# Altium schematic symbol library PBL - Integrated Circuits.SCHLIB: 35 symbols
Pins are listed as number, name and electrical type; pins without a type are passive.

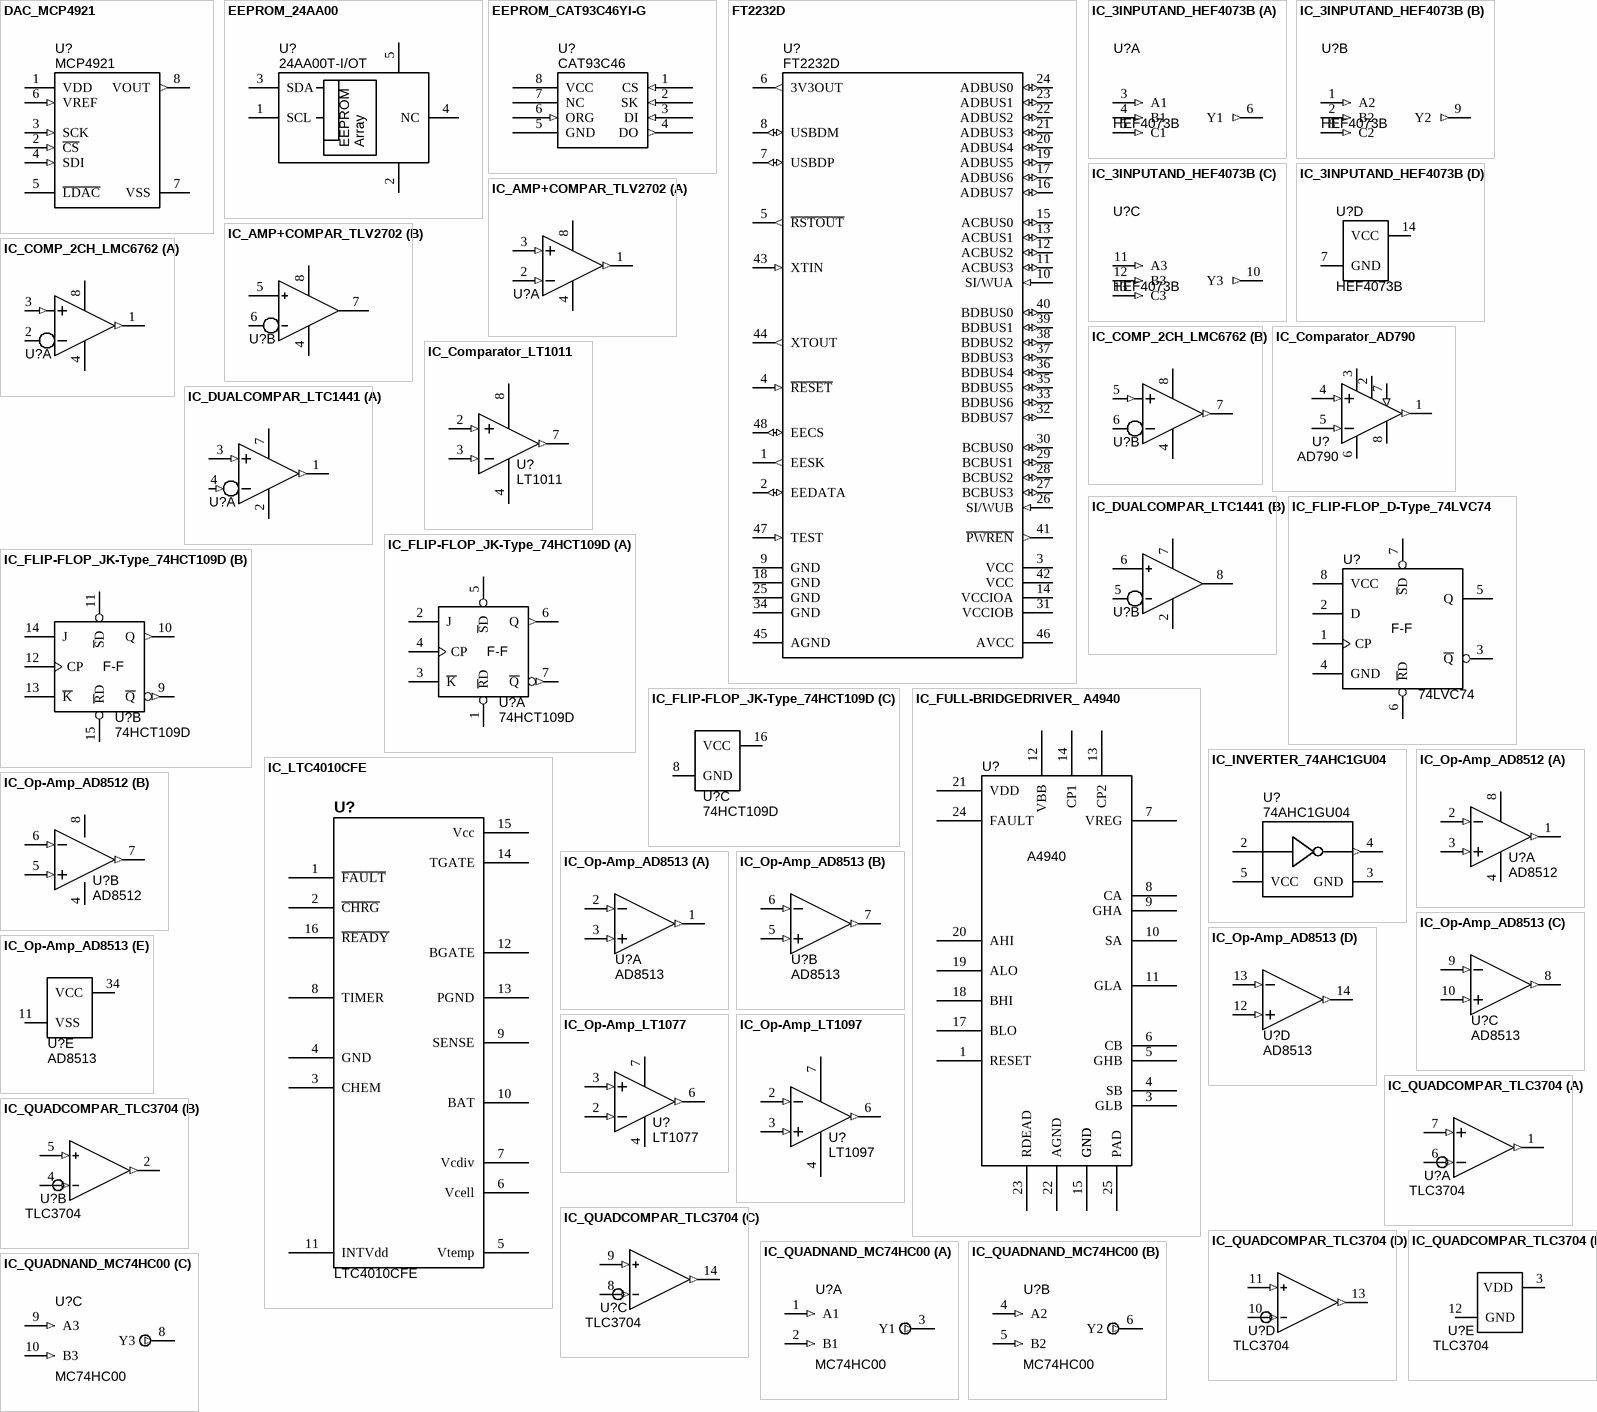
[diagram p0: symbols DAC_MCP4921 to IC_QUADNAND_MC74HC00]

## DAC_MCP4921
designator U?, comment MCP4921
IC DAC 12-bit SPI 8-SOIC; Manufacturer 1: Microchip Technology; Manufacturer Part Number 1: MCP4921-E/SN; Speed: 4.5 µs; Interface: Serial, SPI; Voltage - Supply: 1.8 V ~ 5.5 V; Number of Bits: 12; Number of Converters: 1; SCDType: spec*; Operating Temperature: -40°C ~ 85°C; Package / Case: 8-SOIC (0.154", 3.90mm Width); Supplier 1: Digi-Key; Supplier Part Number 1: MCP4921-E/SN-ND
footprint SOIC127P600X175-8AN (SOIC, 8-Leads, Body 4.9x3.9mm, Pitch 1.27mm, IPC Medium Density)
pins: 1 VDD (power), 2 ~{CS} (in), 3 SCK (in), 4 SDI (in), 5 ~{LDAC} (power), 6 VREF (in), 7 VSS (power), 8 VOUT (out)

## EEPROM_24AA00
designator U?, comment Manufacturer Part Number 1: 24AA00T-I/OT  (hidden comment: EEPROM)
EEPROM 128BIT 400KHZ SOT23-5; Manufacturer 1: Microchip Technology; Format - Memory: EEPROMs - Serial; Memory Size: 128 (16 x 8); Voltage - Supply: 1.7 V ~ 5.5 V; SCDType: spec*; Supplier 1: Digi-Key; Supplier Part Number 1: 24AA00T-I/OTCT-ND; RoHS: RoHS Compliant; Operating Temperature: -40°C ~ 85°C; Package / Case: SOT-23-5; Value: EEPROM
footprint SOT23-5
pins: 1 SCL, 2 GND, 3 SDA, 4 NC, 5 VCC
text: Array

## EEPROM_CAT93C46YI-G
designator U?, comment CAT93C46
EEPROM 1KBIT 2MHZ 8-TSSOP; Manufacturer 1: ON Semiconductor; Manufacturer Part Number 1: CAT93C46YI-G; Format - Memory: EEPROMs - Serial; Memory Size: 1K (128 x 8 or 64 x 16); Interface: Microwire, 3-Wire Serial; Voltage - Supply: 1.8 V ~ 5.5 V; Rule: UNIONINDEX{}0[]SOLDERMASKEXPANSIONMODE{}None[]PASTEMASKEXPANSIONMODE{}None[]RULEKIND{}Clearance[]NETSCOPE{}DifferentNets[]LAYERKIND{}SameLayer[]NAME{}Schematic Clearance Constraint[]GAP{}9.5mil[]UNIT{}Imperial[]PcbType{}ProtelPcb; SCDType: spec; Supplier 1: Digi-Key; Supplier Part Number 1: CAT93C46YI-G-ND; Memory Type: EEPROM; Speed: 2MHz; Operating Temperature: -40°C ~ 85°C; Package / Case: 8-TSSOP; Supplier Device Package: 8-TSSOP; ComponentLink1URL: http://www.onsemi.com/pub_link/Collateral/CAT93C46-D.PDF; ComponentLink1Description: http://www.onsemi.com/pub_link/Collateral/CAT93C46-D.PDF
footprint TSSOP65P640X120-8N (TSSOP, 8 Leads, Body 3.1x4.5mm (max), Pitch 0.65mm, IPC Medium Density)
pins: 1 CS (in), 2 SK (in), 3 DI (in), 4 DO (out), 5 GND (power), 6 ORG (in), 7 NC, 8 VCC (power)

## FT2232D
designator U?
Dual USB UART/FIFO Chip, LQFP-48; Manufacturer 1: FTDI, Future Technology Devices International Ltd; Manufacturer Part Number 1: FT2232D-REEL; Protocol: RS-232, RS-422, RS-485; Voltage - Supply: 4.35 V ~ 5.25 V; Rule: UNIONINDEX{}0[]SOLDERMASKEXPANSIONMODE{}None[]PASTEMASKEXPANSIONMODE{}None[]RULEKIND{}Clearance[]NETSCOPE{}DifferentNets[]LAYERKIND{}SameLayer[]NAME{}Schematic Clearance Constraint[]GAP{}7.874mil[]UNIT{}Metric[]PcbType{}ProtelPcb; SCDType: spec; DatasheetVersion: ver 2.05, Apr-2011; ComponentLink1Description: Manufacturer URL; ComponentLink1URL: http://www.ftdichip.com/; ComponentLink2Description: Datasheet; ComponentLink2URL: http://www.ftdichip.com/Support/Documents/DataSheets/ICs/DS_FT2232D.pdf; Supplier 1: Digi-Key; Supplier Part Number 1: 768-1010-1-ND; Package / Case: 48-LQFP
footprint LQFP-48_N (Thin QFP, 48-Leads, Body 7x7mm, Pitch 0.5mm, IPC Medium Density)
pins: 1 EESK (out), 2 EEDATA (io), 3 VCC (power), 4 ~{RESET} (in), 5 ~{RSTOUT} (out), 6 3V3OUT (out), 7 USBDP (io), 8 USBDM (io), 9 GND (power), 10 SI/WUA (in), 11 ACBUS3 (io), 12 ACBUS2 (io), 13 ACBUS1 (io), 14 VCCIOA (power), 15 ACBUS0 (io), 16 ADBUS7 (io), 17 ADBUS6 (io), 18 GND (power), 19 ADBUS5 (io), 20 ADBUS4 (io), 21 ADBUS3 (io), 22 ADBUS2 (io), 23 ADBUS1 (io), 24 ADBUS0 (io), 25 GND (power), 26 SI/WUB (in), 27 BCBUS3 (io), 28 BCBUS2 (io), 29 BCBUS1 (io), 30 BCBUS0 (io), 31 VCCIOB (power), 32 BDBUS7 (io), 33 BDBUS6 (io), 34 GND (power), 35 BDBUS5 (io), 36 BDBUS4 (io), 37 BDBUS3 (io), 38 BDBUS2 (io), 39 BDBUS1 (io), 40 BDBUS0 (io), 41 ~{PWREN} (out), 42 VCC (power), 43 XTIN (in), 44 XTOUT (out), 45 AGND (power), 46 AVCC (power), 47 TEST (in), 48 EECS (io)

## IC_3INPUTAND_HEF4073B
designator U?, comment HEF4073B
IC SMD Triple 3-input AND SOIC-14; Manufacturer 1: NXP Semiconductors; Manufacturer Part Number 1: HEF4073BT,653; Logic Type: AND gate; Current - Output High, Low: 3mA, 3mA; Voltage - Supply: 3 V ~ 15 V; Ratings: -40°C ~ 85°C; SCDType: undef; Mounting Type: Surface Mount; Package / Case: 14-SOIC (0.154", 3.90mm Width); Supplier 1: Digi-Key; Supplier Part Number 1: 568-7700-1-ND; ComponentLink1URL: http://www.nxp.com/documents/data_sheet/HEF4073B_CNV.pdf; ComponentLink1Description: HEF4073B datasheet
footprint SOIC127P600X175-14AN (SOIC, 1.27mm pitch, 14 pin, Body 8.65x3.90mm)
part A pins: 3 A1 (in), 4 B1 (in), 5 C1 (in), 6 Y1 (out)
part B pins: 1 A2 (in), 2 B2 (in), 8 C2 (in), 9 Y2 (out)
part C pins: 10 Y3 (out), 11 A3 (in), 12 B3 (in), 13 C3 (in)
part D pins: 7 GND (power), 14 VCC (power)

## IC_AMP+COMPAR_TLV2702
designator U?, comment TLV2702  (value not drawn)
IC SMD AMP+COMPAR Combo SOIC-8; Manufacturer 1: Texas Instruments; Manufacturer Part Number 1: TLV2702ID; Voltage - Supply: 2.7 V ~ 16 V, ±1.35 V ~ 8 V; SCDType: undef; Package / Case: 8-SOIC (0.154", 3.90mm Width); Supplier 1: Digi-Key; Supplier Part Number 1: 296-12503-5-ND
footprint SOIC127P600X175-8AN (SOIC, 8-Leads, Body 4.9x3.9mm, Pitch 1.27mm, IPC Medium Density)
pins on every part: 4 -Vs (power), 8 +Vs (power)
part A pins: 1 Aout (out), 2 AIN - (in), 3 AIN + (in)
part B pins: 5 CIN +, 6  CIN-, 7 Cout

## IC_COMP_2CH_LMC6762
designator U?, comment LMC6762  (value not drawn)
IC Dual Rail-Rail PP Comparator SOIC-8 SMD; Manufacturer 1: National Semiconductor; Manufacturer Part Number 1: LMC6762BIM/NOPB; Voltage - Supply: 2.7 V ~ 16 V, ±1.35 V ~ 8 V; Number of Elements: 2; Output Type: Push-Pull, Rail-to-Rail; SCDType: spec; Package / Case: 8-SOIC (0.154", 3.90mm Width); Supplier 1: Digi-Key; Supplier Part Number 1: LMC6762BIM-ND; ComponentLink1URL: http://www.ti.com/lit/ds/symlink/lmc6762.pdf; ComponentLink1Description: http://www.ti.com/lit/ds/symlink/lmc6762.pdf
footprint SOIC127P600X175-8AN (SOIC, 8-Leads, Body 4.9x3.9mm, Pitch 1.27mm, IPC Medium Density)
pins on every part: 4 V- (power), 8 V+ (power)
part A pins: 1 OUT A (out), 2 IN A- (in), 3 IN A+ (in)
part B pins: 5 IN B+ (in), 6 IN B- (in), 7 OUT B (out)

## IC_Comparator_AD790
designator U?, comment AD790
IC SMD Voltage Comparator SOIC-8; Manufacturer 1: Analog Devices Inc; Manufacturer Part Number 1: AD790JRZ; Voltage - Supply: 2.7 V ~ 16 V, ±1.35 V ~ 8 V; SCDType: spec?; Package / Case: 8-SOIC (0.154", 3.90mm Width); Supplier 1: Digi-Key; Supplier Part Number 1: AD790JRZ-ND
footprint SOIC127P600X175-8AN (SOIC, 8-Leads, Body 4.9x3.9mm, Pitch 1.27mm, IPC Medium Density)
pins: 1 OUT (out), 2 Vlogic (power), 3 +Vs (power), 4 +IN (in), 5 -IN (in), 6 -Vs (power), 7 ~{Latch} (in), 8 GND (power)

## IC_Comparator_LT1011
designator U?, comment LT1011
IC SMD Voltage Comparator SOIC-8; Manufacturer 1: Linear Technology; Manufacturer Part Number 1: LT1011CS8#PBF; Voltage - Supply: 2.7 V ~ 16 V, ±1.35 V ~ 8 V; SCDType: undef; Supplier 1: Digi-Key; Supplier Part Number 1: LT1011CS8#PBF-ND; Package / Case: 8-SOIC (0.154", 3.90mm Width)
footprint SOIC127P600X175-8AN (SOIC, 8-Leads, Body 4.9x3.9mm, Pitch 1.27mm, IPC Medium Density)
pins: 2 IN+ (in), 3 IN- (in), 4 V- (power), 7 OUT (out), 8 V+ (power)

## IC_DUALCOMPAR_LTC1441
designator U?, comment LTC1441  (value not drawn)
IC SMD Dual Comparator SOIC-8; Manufacturer 1: Texas Instruments; Manufacturer Part Number 1: LTC1441CS8#PBF; Voltage - Supply: 2.7 V ~ 16 V, ±1.35 V ~ 8 V; SCDType: undef; Package / Case: 8-SOIC (0.154", 3.90mm Width); Supplier 1: Digi-Key; Supplier Part Number 1: LTC1441CS8#PBF-ND
footprint SOIC127P600X175-8AN (SOIC, 8-Leads, Body 4.9x3.9mm, Pitch 1.27mm, IPC Medium Density)
pins on every part: 2 V- (power), 7 V+ (power)
part A pins: 1 OUT A (out), 3 IN A+ (in), 4 IN A- (in)
part B pins: 5 IN B-, 6 IN B+, 8 Out B

## IC_FLIP-FLOP_D-Type_74LVC74
designator U?, comment 74LVC74
IC Flip-Flop D-type TSSOP-8 SMD; Manufacturer 1: NXP Semiconductors; Manufacturer Part Number 1: 74LVC2G74DP,125; SCDType: spec; Value: 74LVC74; Supplier 1: Digi-Key; Supplier Part Number 1: 568-7681-1-ND; Package / Case: 8-TSSOP (0.118", 3.00mm Width)
footprint TSSOP65P400X110-8N (TSSOP, 8 Leads, Body 3.1x3.1mm (max), lead span 4.0mm, Pitch 0.65mm, IPC Medium Density)
pins: 1 CP, 2 D, 3 ~{Q}, 4 GND, 5 Q, 6 ~{R}D, 7 ~{S}D, 8 VCC
text: F-F

## IC_FLIP-FLOP_JK-Type_74HCT109D
designator U?, comment 74HCT109D
IC Flip-Flop JK-type SOIC-16 SMD; Manufacturer 1: NXP Semiconductors; Manufacturer Part Number 1: 74HCT109D,653; SCDType: undef; Value: 74HCT109D; Package / Case: 16-SOIC (0.154", 3.90mm Width); ComponentLink1URL: http://www.nxp.com/documents/data_sheet/74HC_HCT109_CNV.pdf; ComponentLink1Description: 74HCT109D datasheet; Supplier 1: Digi-Key; Supplier Part Number 1: 568-4577-1-ND
footprint SOIC127P600X175-16AN (SOIC, 1.27mm pitch, 16 pin, Body 9.9x3.90mm)
part A pins: 1 ~{R}D, 2 J, 3 ~{K}, 4 CP, 5 ~{S}D, 6 Q (out), 7 ~{Q} (out)
part B pins: 9 ~{Q} (out), 10 Q (out), 11 ~{S}D, 12 CP, 13 ~{K}, 14 J, 15 ~{R}D
part C pins: 8 GND (power), 16 VCC (power)
part A text: F-F
part B text: F-F

## IC_FULL-BRIDGEDRIVER_ A4940
designator U?, comment A4940
24-pin TSSOP Automotive Full Bridge MOSFET Driver; Manufacturer Part Number 1: A4940KLPTR-T; Manufacturer 1: Allegro Microsystems Inc; Input Type: Non-Inverting; Voltage - Supply: 5.5 V ~ 50 V; SCDType: undef; Supplier 1: Digi-Key; Package / Case: 24-TSSOP (0.173", 4.40mm Width) Exposed Pad; Supplier Part Number 1: 620-1319-1-ND; ComponentLink1URL: http://www.allegromicro.com/en/Products/Part_Numbers/4940/4940.pdf; ComponentLink1Description: A4940 Datasheet
footprint SOP65P640X110-25N (TSSOP, 24-Leads, Body 7.9x4.5mm (max), Pitch 0.65mm, IPC Medium Density; JEDEC MO-153)
pins: 1 RESET "reset input", 2 GND (power) "ground", 3 GLB "low-side gate drive B", 4 SB "load connection B", 5 GHB "high-side gate drive B", 6 CB "bootstrap capacitor B", 7 VREG "regulated 13V ouput", 8 CA "bootstrap capacitor A", 9 GHA "high-side gate drive A", 10 SA "load connection A", 11 GLA "low-side gate drive A", 12 VBB (power) "main supply", 13 CP2 "pump capacitor", 14 CP1 "pump capacitor", 15 GND (power) "ground", 16 GND (power) "ground", 17 BLO "control input B low side", 18 BHI "control input B high side", 19 ALO "control input A low side", 20 AHI "control input A high side", 21 VDD (power) "logic supply", 22 AGND (power) "ground reference", 23 RDEAD "dead time setting input", 24 FAULT "fault output", 25 PAD (power) "exposed die pad"

## IC_INVERTER_74AHC1GU04
designator U?, comment 74AHC1GU04
IC Inverter SOT353 SMD; Manufacturer 1: NXP Semiconductors; Manufacturer Part Number 1: 74AHC1GU04GW,125; Voltage - Supply: 2 V ~ 5.5 V; SCDType: undef; Package / Case: 6-TSSOP (5 Lead), SC-88A, SOT-353; ComponentLink1URL: http://www.nxp.com/documents/data_sheet/74AHC1GU04.pdf; ComponentLink1Description: 74AHC1GU04 datasheet; Supplier 1: Digi-Key; Supplier Part Number 1: 568-4825-1-ND
footprint SOT353 (Small outline 2.1mm L x 1.25mm W x 1mm H; 5LD SC-70; SC-88A)
pins: 2 A, 3 GND (power), 4 Y (out), 5 VCC (power)

## IC_LTC4010CFE
designator U?, comment LTC4010CFE
IC Battery Charge Controller; Manufacturer 1: Linear Technology; Manufacturer Part Number 1: LTC4010CFE#PBF; SCDType: undef; Package / Case: 16-TSSOP-EP; Material: Si; Supplier 1: Digi-Key; Supplier Part Number 1: LTC4010CFE#PBF-ND
footprint TSSOP65P640X120-17N (TSSOP, 16 Leads with exposed body pad, Body 5.1x4.5mm (max), Pitch 0.65mm, IPC Medium Density)
pins: 1 ~{FAULT} "Active-low fault indicator output", 2 ~{CHRG} "Active-low charge indicator output", 3 CHEM "Battery chemistry selection input", 4 GND "Ground", 5 Vtemp "Battery temperature input", 6 Vcell "Average single-cell voltage input", 7 Vcdiv "Average cell voltage resistor divider termination", 8 TIMER "Charge timer input", 9 SENSE "Charge current sense input", 10 BAT "Battery pack connection", 11 INTVdd "Internal 5V regulator output", 12 BGATE "External synchronous N-channel MOSFET gate control output", 13 PGND "Power ground", 14 TGATE "External P-channel MOSFET gate control output", 15 Vcc "Power input", 16 ~{READY} "Active-low ready-to-charge output", 17 GND "Ground"

## IC_Op-Amp_AD8512
designator U?, comment AD8512
IC SMD Low Cost Op Amp SOIC-8; Manufacturer 1: Analog Devices Inc; Manufacturer Part Number 1: AD8512BRZ; Voltage - Supply: 2.7 V ~ 16 V, ±1.35 V ~ 8 V; SCDType: spec?; Package / Case: 8-SOIC (0.154", 3.90mm Width); Supplier 1: Digi-Key; Supplier Part Number 1: AD8512BRZ-ND
footprint SOIC127P600X175-8AN (SOIC, 8-Leads, Body 4.9x3.9mm, Pitch 1.27mm, IPC Medium Density)
pins on every part: 4 V- (power), 8 V+ (power)
part A pins: 1 OUT (out), 2 IN- (in), 3 IN+ (in)
part B pins: 5 IN+ (in), 6 IN- (in), 7 OUT (out)

## IC_Op-Amp_AD8513
designator U?, comment AD8513
IC Op Amp JFET 8MHz Quad TSSOP-14 SMD; Manufacturer 1: Analog Devices Inc; Manufacturer Part Number 1: AD8513ARUZ; Voltage - Supply, Single/Dual (±): ±4.5 V ~ 18 V; SCDType: spec?; Package / Case: 14-TSSOP (0.173", 4.40mm Width); Supplier 1: Digi-Key; Supplier Part Number 1: AD8513ARUZ-ND
footprint TSSOP65P640X120-14N (TSSOP, 14-Leads, Body 5.0x4.5mm (max), Pitch 0.65mm, IPC Medium Density)
part A pins: 1 OUT (out), 2 IN- (in), 3 IN+ (in)
part B pins: 5 IN+ (in), 6 IN- (in), 7 OUT (out)
part C pins: 8 OUT (out), 9 IN- (in), 10 IN+ (in)
part D pins: 12 IN+ (in), 13 IN- (in), 14 OUT (out)
part E pins: 11 VSS (power), 34 VCC (power)

## IC_Op-Amp_LT1077
designator U?, comment LT1077
IC SMD Op Amp Precision Micropower SOIC-8; Manufacturer 1: Linear Technology; Manufacturer Part Number 1: LT1077IS8#PBF; Voltage - Supply: 2.2 V ~ 30 V, ±1.1 V ~ 15 V; Gain Bandwidth Product: 230kHz; SCDType: spec; Package / Case: 8-SOIC (0.154", 3.90mm Width); Supplier 1: Digi-Key; Supplier Part Number 1: LT1077IS8#PBF-ND
footprint SOIC127P600X175-8AN (SOIC, 8-Leads, Body 4.9x3.9mm, Pitch 1.27mm, IPC Medium Density)
pins: 2 IN- (in), 3 IN+ (in), 4 V- (power), 6 OUT (out), 7 V+ (power)

## IC_Op-Amp_LT1097
designator U?, comment LT1097
IC SMD Low Cost Op Amp SOIC-8; Manufacturer 1: Linear Technology; Manufacturer Part Number 1: LT1097S8#PBF; Voltage - Supply: 2.7 V ~ 16 V, ±1.35 V ~ 8 V; SCDType: undef; Package / Case: 8-SOIC (0.154", 3.90mm Width)
footprint SOIC127P600X175-8AN (SOIC, 8-Leads, Body 4.9x3.9mm, Pitch 1.27mm, IPC Medium Density)
pins: 2 IN- (in), 3 IN+ (in), 4 V- (power), 6 OUT (out), 7 V+ (power)

## IC_QUADCOMPAR_TLC3704
designator U?, comment TLC3704
IC SMD Quad Comparator SOIC-14; Manufacturer 1: Texas Instruments; Manufacturer Part Number 1: TLC3704QDRG4Q1; Voltage - Supply: 2.7 V ~ 16 V, ±1.35 V ~ 8 V; SCDType: spec; Package / Case: 14-SOIC (0.154", 3.90mm Width); Supplier 1: Digi-Key; Supplier Part Number 1: 296-23711-1-ND
footprint SOIC127P600X175-14AN (SOIC, 1.27mm pitch, 14 pin, Body 8.65x3.90mm)
part A pins: 1 1OUT (out), 6 1IN - (in), 7 1IN + (in)
part B pins: 2 2OUT (out), 4 2IN - (in), 5 2IN + (in)
part C pins: 8 3IN - (in), 9 3IN+ (in), 14 3OUT (out)
part D pins: 10 4IN - (in), 11 4IN + (in), 13 4OUT (out)
part E pins: 3 VDD (power), 12 GND (power)

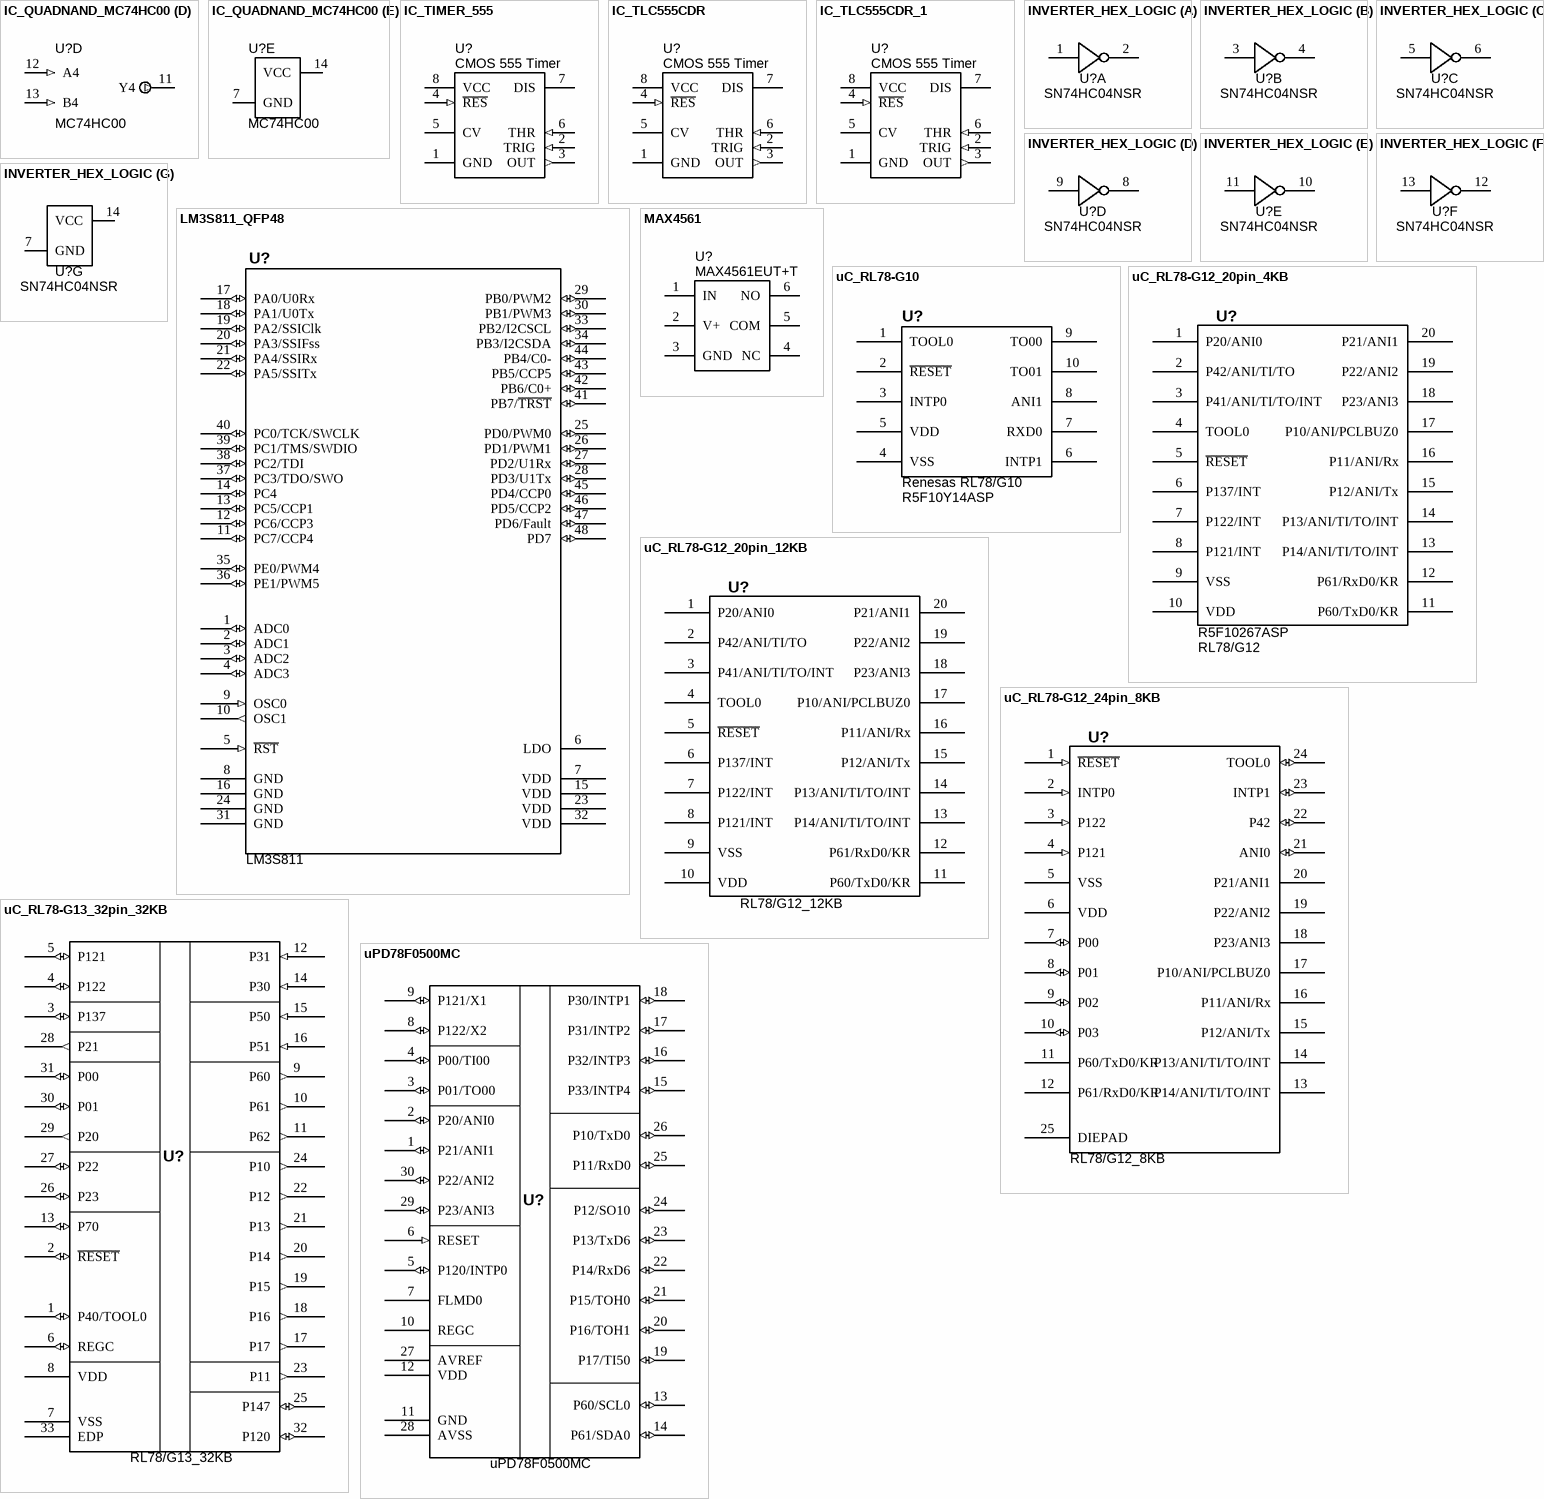
[diagram p1: symbols IC_QUADNAND_MC74HC00 to uPD78F0500MC]

## IC_QUADNAND_MC74HC00
designator U?, comment MC74HC00
IC SMD Quad NAND SOIC-14; Manufacturer 1: ON Semiconductor; Manufacturer Part Number 1: MC74HC00ADG; Current - Output High, Low: 5.2mA, 5.2mA; Voltage - Supply: 2 V ~ 6 V; Ratings: -40°C ~ 85°C; 5.2mA; SCDType: spec; Logic Type: NAND; Mounting Type: Surface Mount; Package / Case: SOIC-14; Supplier 1: Digi-Key; Supplier Part Number 1: MC74HC00ADGOS-ND
footprint SOIC127P600X175-14AN (SOIC, 1.27mm pitch, 14 pin, Body 8.65x3.90mm)
part A pins: 1 A1 (in), 2 B1 (in), 3 Y1 (out)
part B pins: 4 A2 (in), 5 B2 (in), 6 Y2 (out)
part C pins: 8 Y3 (out), 9 A3 (in), 10 B3 (in)
part D pins: 11 Y4 (out), 12 A4 (in), 13 B4 (in)
part E pins: 7 GND (power), 14 VCC (power)

## IC_TIMER_555
designator U?, comment CMOS 555 Timer
IC CMOS 555 Timer SOIC-8 SMD; Manufacturer 1: NXP Semiconductors; Manufacturer Part Number 1: ICM7555CD/01,118; Voltage - Supply: 4.5 - 16; Frequency: 500kHz; Current - Supply: 180µA; SCDType: source; Package / Case: 8-SOIC (0.154", 3.90mm Width); Operating Temperature: 0°C ~ 70°C; Supplier 1: Digi-Key; Supplier Part Number 1: 568-1818-1-ND; Type: 555 Type, Timer/Oscillator (Single); Mounting Type: Surface Mount; ComponentLink1URL: http://www.nxp.com/documents/data_sheet/ICM7555.pdf; ComponentLink1Description: http://www.nxp.com/documents/data_sheet/ICM7555.pdf
footprint SOIC127P600X175-8AN (SOIC, 8-Leads, Body 4.9x3.9mm, Pitch 1.27mm, IPC Medium Density)
pins: 1 GND (power), 2 TRIG (in), 3 OUT (out), 4 ~{RES} (in), 5 CV, 6 THR (in), 7 DIS, 8 VCC (power)

## IC_TLC555CDR
designator U?, comment CMOS 555 Timer
IC CMOS 555 Timer SOIC-8 SMD; Manufacturer 1: Texas Instruments; Manufacturer Part Number 1: TLC555CDG4; Voltage - Supply: 4.5 - 16; Frequency: 2100kHz; Current - Supply: 180µA; SCDType: source; Package / Case: 8-SOIC (0.154", 3.90mm Width); Operating Temperature: 0°C ~ 70°C; Type: 555 Type, Timer/Oscillator (Single); Mounting Type: Surface Mount; Count: -; ComponentLink1URL: http://www.ti.com/lit/ds/symlink/tlc555.pdf; ComponentLink1Description: http://www.ti.com/lit/ds/symlink/tlc555.pdf; Supplier 1: Digi-Key; Supplier Part Number 1: TLC555CDG4-ND; RoHS 1: RoHS Compliant; Ratings: 2100kHz
footprint SOIC127P600X175-8AN (SOIC, 8-Leads, Body 4.9x3.9mm, Pitch 1.27mm, IPC Medium Density)
pins: 1 GND (power), 2 TRIG (in), 3 OUT (out), 4 ~{RES} (in), 5 CV, 6 THR (in), 7 DIS, 8 VCC (power)

## IC_TLC555CDR_1
designator U?, comment CMOS 555 Timer
IC CMOS 555 Timer SOIC-8 SMD; Manufacturer 1: Texas Instruments; Manufacturer Part Number 1: TLC555CDG4; Voltage - Supply: 4.5 - 16; Frequency: 2100kHz; Current - Supply: 180µA; SCDType: source; Package / Case: 8-SOIC (0.154", 3.90mm Width); Operating Temperature: 0°C ~ 70°C; Type: 555 Type, Timer/Oscillator (Single); Mounting Type: Surface Mount; Count: -; ComponentLink1URL: http://www.ti.com/lit/ds/symlink/tlc555.pdf; ComponentLink1Description: http://www.ti.com/lit/ds/symlink/tlc555.pdf; Supplier 1: Digi-Key; Supplier Part Number 1: TLC555CDG4-ND; RoHS 1: RoHS Compliant; Ratings: 2100kHz
footprint SOIC127P600X175-8AN (SOIC, 8-Leads, Body 4.9x3.9mm, Pitch 1.27mm, IPC Medium Density)
pins: 1 GND (power), 2 TRIG (in), 3 OUT (out), 4 ~{RES} (in), 5 CV, 6 THR (in), 7 DIS, 8 VCC (power)

## INVERTER_HEX_LOGIC
designator U?  Manufacturer Part Number 1: SN74HC04NSR  (hidden comment: *)
Inverter IC Logic-level 6 section SOP-14 SMD; Manufacturer 1: Texas Instruments; Current - Output High, Low: 5.2mA, 5.2mA; Voltage - Supply: 2 V ~ 6 V; Ratings: -40°C ~ 85°C; 5.2mA; SCDType: source*; Supplier 1: Digi-Key; Supplier Part Number 1: 296-12883-1-ND; Logic Type: Inverter; Mounting Type: Surface Mount; Package / Case: SOP-14
footprint SOIC127P780X200-14N (SOIC, 14 Leads, Body 10.5x3.9mm, Pitch 1.27mm, IPC Medium Density)
part A pins: 1 1A, 2 1Y
part B pins: 3 2A, 4 2Y
part C pins: 5 3A, 6 3Y
part D pins: 8 4Y, 9 4A
part E pins: 10 5Y, 11 5A
part F pins: 12 6Y, 13 6A
part G pins: 7 GND, 14 VCC

## LM3S811_QFP48
designator U?, comment LM3S811
IC ARM Cortex Microcontroller 64KB flash LQFP-48 SMD; Manufacturer 1: Texas Instruments; Manufacturer Part Number 1: LM3S811-IQN50-C2; Core Processor: ARM® Cortex-M3™; Core Size: 32-Bit; Speed: 50MHz; Connectivity: I²C, Microwire, SPI, SSI, UART/USART; Peripherals: Brown-out Detect/Reset, POR, PWM, WDT; Number of I /O: 32; Program Memory Size: 64KB (64K x 8); RAM Size: 8K x 8; Voltage - Supply (Vcc/Vdd): 3 V ~ 3.6 V; Data Converters: A/D 4x10b; Oscillator Type: Internal; Rule: UNIONINDEX{}0[]SOLDERMASKEXPANSIONMODE{}None[]PASTEMASKEXPANSIONMODE{}None[]RULEKIND{}Clearance[]NETSCOPE{}DifferentNets[]LAYERKIND{}SameLayer[]NAME{}Schematic Clearance Constraint[]GAP{}7.874mil[]UNIT{}Metric[]PcbType{}ProtelPcb; SCDType: spec*; Supplier 1: Digi-Key; Supplier Part Number 1: 296-24918-ND; Program Memory Type: FLASH; EEPROM Size: -; Operating Temperature: -40°C ~ 85°C; Package / Case: 48-LQFP; ComponentLink1URL: http://www.ti.com/lit/ds/symlink/lm3s811.pdf; ComponentLink1Description: http://www.ti.com/lit/ds/symlink/lm3s811.pdf
footprint LQFP-48_N (Thin QFP, 48-Leads, Body 7x7mm, Pitch 0.5mm, IPC Medium Density)
pins: 1 ADC0 (io), 2 ADC1 (io), 3 ADC2 (io), 4 ADC3 (io), 5 ~{RST} (in), 6 LDO, 7 VDD (power), 8 GND (power), 9 OSC0 (in), 10 OSC1 (out), 11 PC7/CCP4 (io), 12 PC6/CCP3 (io), 13 PC5/CCP1 (io), 14 PC4 (io), 15 VDD (power), 16 GND (power), 17 PA0/U0Rx (io), 18 PA1/U0Tx (io), 19 PA2/SSIClk (io), 20 PA3/SSIFss (io), 21 PA4/SSIRx (io), 22 PA5/SSITx (io), 23 VDD (power), 24 GND (power), 25 PD0/PWM0 (io), 26 PD1/PWM1 (io), 27 PD2/U1Rx (io), 28 PD3/U1Tx (io), 29 PB0/PWM2 (io), 30 PB1/PWM3 (io), 31 GND (power), 32 VDD (power), 33 PB2/I2CSCL (io), 34 PB3/I2CSDA (io), 35 PE0/PWM4 (io), 36 PE1/PWM5 (io), 37 PC3/TDO/SWO (io), 38 PC2/TDI (io), 39 PC1/TMS/SWDIO (io), 40 PC0/TCK/SWCLK (io), 41 PB7/~{TRST} (io), 42 PB6/C0+ (io), 43 PB5/CCP5 (io), 44 PB4/C0- (io), 45 PD4/CCP0 (io), 46 PD5/CCP2 (io), 47 PD6/Fault (io), 48 PD7 (io)

## MAX4561
designator U?  Manufacturer Part Number 1: MAX4561EUT+T
IC SMD Analog Switch SOT23-6; Manufacturer 1: Maxim Integrated Products; Ratings: 10mA 12V Max; SCDType: source/; Package / Case: SOT-23-6; Supplier 1: Digi-Key; Supplier Part Number 1: MAX4561EUT+TCT-ND
footprint SOT23-6
pins: 1 IN, 2 V+, 3 GND, 4 NC, 5 COM, 6 NO

## uC_RL78-G10
designator U?, comment Renesas RL78/G10  Manufacturer Part Number 1: R5F10Y14ASP
Microcontroller Renesas 16-bit 1KB TSSOP-10 SMD; SCDType: source; Manufacturer 1: Renesas; Package / Case: TSSOP-10; Material: Si; ComponentLink1URL: http://documentation.renesas.com/doc/products/mpumcu/doc/rl78/r01ds0207ej0100_rl78g10ds.pdf; ComponentLink1Description: RL78/G10 Datasheet
footprint TSSOP65P640X120-10N (TSSOP, 10 Leads, Body 3.7x4.5mm (max), Pitch 0.65mm, IPC Medium Density)
pins: 1 TOOL0, 2 ~{RESET} "Reset input", 3 INTP0 "Interrupt", 4 VSS (power) "GND", 5 VDD (power), 6 INTP1 "Interrups", 7 RXD0 "Serial RX", 8 ANI1 "Analog Input", 9 TO00 "Timer output", 10 TO01 "Timer output"

## uC_RL78-G12_20pin_4KB
designator U?, comment R5F10267ASP  Core Processor: RL78/G12
IC Renesas 16-Bit Single-Chip Microcontroller 4KB flash LSSOP-20 SMD; Manufacturer 1: Renesas Electronics America; Manufacturer Part Number 1: R5F10267ASP#V0; Voltage - Supply (Vcc/Vdd): 1.8 V ~ 5.5 V; Value: 4KB ROM Flash; 2KB Data Flash; 512B RAM; SCDType: undef; Speed: 24MHz; Connectivity: CSI, I²C, UART/USART; Peripherals: DMA, POR, PWM, WDT; Number of I /O: 18; Program Memory Size: 4KB (4K x 8); RAM Size: 512 x 8; Data Converters: A/D 11x8/10b; Oscillator Type: Internal; Package / Case: LSSOP-20; Operating Temperature: -40°C ~ 85°C; Supplier 1: Digi-Key; Supplier Part Number 1: R5F10267ASP#V0-ND; RoHS 1: RoHS Compliant; Core Size: 16-Bit; Program Memory Type: FLASH; EEPROM Size: -; ComponentLink1URL: http://documentation.renesas.com/doc/products/mpumcu/doc/rl78/r01ds0193ej0200_rl78g12.pdf; ComponentLink1Description: http://documentation.renesas.com/doc/products/mpumcu/doc/rl78/r01ds0193ej0200_rl78g12.pdf
footprint LSSOP65P640X145-20N (LSSOP, 20-Leads, Body 6.6x4.5mm (max), Pitch 0.65mm, IPC Medium Density)
pins: 1 P20/ANI0 "Port 2:0, Analog Input 0", 2 P42/ANI/TI/TO "Port 4:2", 3 P41/ANI/TI/TO/INT "Interrupt 1", 4 TOOL0 "Data IO for Tool", 5 ~{RESET} "Reset", 6 P137/INT "Interrupt 0", 7 P122/INT "Interrupt 2", 8 P121/INT "Interrupt 3", 9 VSS "Ground", 10 VDD "Power Supply", 11 P60/TxD0/KR "Serial Tx", 12 P61/RxD0/KR "Serial Rx", 13 P14/ANI/TI/TO/INT "Timer Output 1", 14 P13/ANI/TI/TO/INT "Timer Output 0", 15 P12/ANI/Tx "Port 1:2", 16 P11/ANI/Rx "Port 1:1", 17 P10/ANI/PCLBUZ0 "Buzzer Output", 18 P23/ANI3 "Port 2:3, Analog Input 3", 19 P22/ANI2 "Port 2:2, Analog Input 2", 20 P21/ANI1 "Port 2:1, Analog Input 1"
1 alternate drawing of the same symbol

## uC_RL78-G12_20pin_12KB
designator U?, comment RL78/G12_12KB
IC Renesas 16-Bit Single-Chip Microcontroller 12KB flash LSSOP-20 SMD; Manufacturer 1: Renesas Electronics America; Manufacturer Part Number 1: R5F10269ASP#V0; Voltage - Supply (Vcc/Vdd): 1.8 V ~ 5.5 V; Value: 12KB ROM; 2KB DATA; 1KB RAM; SCDType: undef; Package / Case: LSSOP-20; Core Processor: RL78/G12; Operating Temperature: -40°C ~ 85°C; Supplier 1: Digi-Key; Supplier Part Number 1: R5F10269ASP#V0-ND; ComponentLink1URL: http://documentation.renesas.com/doc/products/mpumcu/doc/rl78/r01uh0200ej0100_rl78g12.pdf; ComponentLink1Description: http://documentation.renesas.com/doc/products/mpumcu/doc/rl78/r01uh0200ej0100_rl78g12.pdf
footprint LSSOP65P640X145-20N (LSSOP, 20-Leads, Body 6.6x4.5mm (max), Pitch 0.65mm, IPC Medium Density)
pins: 1 P20/ANI0 "Port 2:0, Analog Input 0", 2 P42/ANI/TI/TO "Port 4:2", 3 P41/ANI/TI/TO/INT "Interrupt 1", 4 TOOL0 "Data IO for Tool", 5 ~{RESET} "Reset", 6 P137/INT "Interrupt 0", 7 P122/INT "Interrupt 2", 8 P121/INT "Interrupt 3", 9 VSS "Ground", 10 VDD "Power Supply", 11 P60/TxD0/KR "Serial Tx", 12 P61/RxD0/KR "Serial Rx", 13 P14/ANI/TI/TO/INT "Timer Output 1", 14 P13/ANI/TI/TO/INT "Timer Output 0", 15 P12/ANI/Tx "Port 1:2", 16 P11/ANI/Rx "Port 1:1", 17 P10/ANI/PCLBUZ0 "Buzzer Output", 18 P23/ANI3 "Port 2:3, Analog Input 3", 19 P22/ANI2 "Port 2:2, Analog Input 2", 20 P21/ANI1 "Port 2:1, Analog Input 1"
1 alternate drawing of the same symbol

## uC_RL78-G12_24pin_8KB
designator U?, comment RL78/G12_8KB
IC Renesas 16-Bit Single-Chip Microcontroller 8KB flash WQFN-24 SMD; Manufacturer Part Number 1: R5F10278ANA#U0; Voltage - Supply (Vcc/Vdd): 1.8 V ~ 5.5 V; Rule: UNIONINDEX{}0[]SOLDERMASKEXPANSIONMODE{}None[]PASTEMASKEXPANSIONMODE{}None[]RULEKIND{}Clearance[]NETSCOPE{}DifferentNets[]LAYERKIND{}SameLayer[]NAME{}Schematic Clearance Constraint[]GAP{}9.8425mil[]UNIT{}Imperial[]PcbType{}ProtelPcb; Value: 8KB ROM; 2KB DATA; 768B RAM; SCDType: source; Speed: 24MHz; Connectivity: CSI, I²C, UART/USART; Peripherals: DMA, POR, PWM, WDT; Number of I /O: 22; Program Memory Size: 8KB (8K x 8); RAM Size: 768 x 8; Data Converters: A/D 11x8/10b; Oscillator Type: Internal; Package / Case: WQFN-24; Core Processor: RL78/G12; Operating Temperature: -40°C ~ 85°C; Supplier 1: Arrow; Supplier Part Number 1: 51233983S156327N4664; Manufacturer 1: Renesas; Supplier 2: Digi-Key; Supplier Part Number 2: R5F10278ANA#U0-ND; Manufacturer 2: Renesas Electronics America; Manufacturer Part Number 2: R5F10278ANA#U0; RoHS 2: RoHS Compliant; Core Size: 16-Bit; Program Memory Type: FLASH; EEPROM Size: -; ComponentLink1URL: http://documentation.renesas.com/doc/products/mpumcu/doc/rl78/r01ds0193ej0200_rl78g12.pdf; ComponentLink1Description: http://documentation.renesas.com/doc/products/mpumcu/doc/rl78/r01ds0193ej0200_rl78g12.pdf
footprint QFN50P400X400X80-25N (QFN, 24-Leads with exposed die pad, Body 4.05x4.05mm (max), Pitch 0.50mm, IPC Medium Density)
pins: 1 ~{RESET} (in) "P125", 2 INTP0 (in) "P137", 3 P122 (in), 4 P121 (in), 5 VSS (power), 6 VDD (power), 7 P00 (io), 8 P01 (io), 9 P02 (io), 10 P03 (io), 11 P60/TxD0/KR "Serial Tx", 12 P61/RxD0/KR "Serial Rx", 13 P14/ANI/TI/TO/INT "Timer Output 1", 14 P13/ANI/TI/TO/INT "Timer Output 0", 15 P12/ANI/Tx "Port 1:2", 16 P11/ANI/Rx "Port 1:1", 17 P10/ANI/PCLBUZ0 "Buzzer Output", 18 P23/ANI3 "Port 2:3, Analog Input 3", 19 P22/ANI2 "Port 2:2, Analog Input 2", 20 P21/ANI1 "Port 2:1, Analog Input 1", 21 ANI0 (io) "P20", 22 P42 (io), 23 INTP1 (io) "P41", 24 TOOL0 (io) "P40", 25 DIEPAD (power) "Exposed thermal pad"
1 alternate drawing of the same symbol

## uC_RL78-G13_32pin_32KB
designator U?, comment RL78/G13_32KB
IC Renesas 16-Bit Single-Chip Microcontroller 32KB flash WQFN-32 SMD; Manufacturer 1: Renesas Electronics America; Manufacturer Part Number 1: R5F100BCANA#U0; Voltage - Supply (Vcc/Vdd): 1.8 V ~ 5.5 V; SCDType: source; Package / Case: WQFN-32; Core Processor: RL78/G13; Operating Temperature: -40°C ~ 85°C; Supplier 1: Digi-Key; Supplier Part Number 1: R5F100BCANA#U0-ND; ComponentLink1URL: http://am.renesas.com/media/products/mpumcu/rl78/R01UH0146EJ0100_RL78G13.pdf; ComponentLink1Description: http://am.renesas.com/media/products/mpumcu/rl78/R01UH0146EJ0100_RL78G13.pdf
footprint QFN50P500X500X80-33N (QFN, 32-Leads with exposed die pad, Body 5.1x5.1mm (max), Pitch 0.50mm, IPC Medium Density)
pins: 1 P40/TOOL0 (io), 2 ~{RESET} (io), 3 P137 (io), 4 P122 (io), 5 P121 (io), 6 REGC (io), 7 VSS (power), 8 VDD (power), 9 P60 (out), 10 P61 (out), 11 P62 (out), 12 P31 (in), 13 P70 (io), 14 P30 (in), 15 P50 (in), 16 P51 (in), 17 P17 (out), 18 P16 (out), 19 P15 (out), 20 P14 (out), 21 P13 (out), 22 P12 (out), 23 P11 (out), 24 P10 (out), 25 P147 (io), 26 P23 (io), 27 P22 (io), 28 P21 (out), 29 P20 (out), 30 P01 (io), 31 P00 (io), 32 P120 (io), 33 EDP (power)

## uPD78F0500MC
designator U?
IC SMD NEC 8-Bit Single-Chip Microcontroller; Manufacturer Part Number 1: µPD78F0500MC-5A4-A; SCDType: source; Manufacturer 1: NEC; Package / Case: SSOP-30; Material: Silicon; Supplier 1: Digi-Key; Supplier Part Number 1: UPD78F0500MC-5A4-A-ND; ComponentLink1URL: http://documentation.renesas.com/doc/DocumentServer/r01uh0008ej0401_78k0kx2.pdf; ComponentLink1Description: http://documentation.renesas.com/doc/DocumentServer/r01uh0008ej0401_78k0kx2.pdf
footprint SOP65P810X120-30N (SOP, 30-Leads, Body 9.8x6.2mm (max), Pitch 0.65mm, IPC Medium Density)
pins: 1 P21/ANI1 (io) "Analog input", 2 P20/ANI0 (io) "Analog input", 3 P01/TO00 (io), 4 P00/TI00 (io), 5 P120/INTP0 (io), 6 RESET (in) "Reset", 7 FLMD0, 8 P122/X2 (io) "Crystal oscillator", 9 P121/X1 (io) "Crystal oscillator", 10 REGC "Regulator capacitance", 11 GND (power) "Ground", 12 VDD (power) "Power supply", 13 P60/SCL0 (io), 14 P61/SDA0 (io), 15 P33/INTP4 (io), 16 P32/INTP3 (io), 17 P31/INTP2 (io), 18 P30/INTP1 (io), 19 P17/TI50 (io), 20 P16/TOH1 (io), 21 P15/TOH0 (io), 22 P14/RxD6 (io), 23 P13/TxD6 (io) "Transmit data", 24 P12/SO10 (io), 25 P11/RxD0 (io), 26 P10/TxD0 (io) "Transmit data", 27 AVREF (power) "Analog reference voltage", 28 AVSS (power) "Analog ground", 29 P23/ANI3 (io) "Analog input", 30 P22/ANI2 (io) "Analog input"

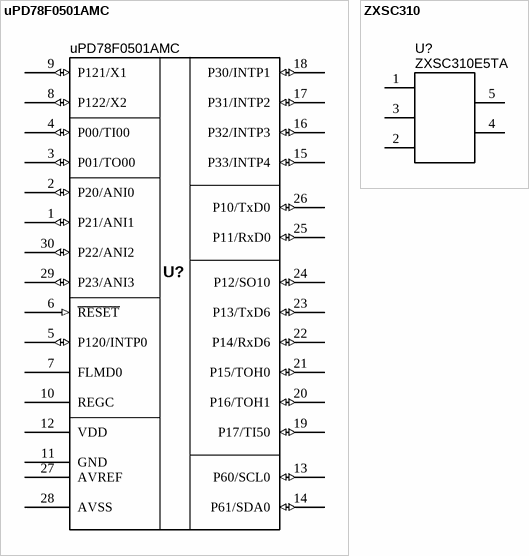
[diagram p2: symbols uPD78F0501AMC to ZXSC310]

## uPD78F0501AMC
designator U?
IC SMD Renesas 8-Bit Single-Chip Microcontroller 16KB flash; Manufacturer 1: Renesas Electronics America/NEC; Manufacturer Part Number 1: UPD78F0501AMC-CAB-AX; Core Processor: 78K/0; Speed: 20MHz; Program Memory Size: 16KB (16K x 8); RAM Size: 768 x 8; Voltage - Supply (Vcc/Vdd): 1.8 V ~ 5.5 V; SCDType: source; Package / Case: SSOP-30; Supplier 1: Digi-Key; Supplier Part Number 1: UPD78F0501AMC-CAB-AX-ND; Program Memory Type: FLASH; Operating Temperature: -40°C ~ 85°C; ComponentLink1URL: http://www2.renesas.com/maps_download/pdf/R01UH0008EJ0401_78K0Kx2.pdf; ComponentLink1Description: http://www2.renesas.com/maps_download/pdf/R01UH0008EJ0401_78K0Kx2.pdf
footprint SOP65P810X120-30N (SOP, 30-Leads, Body 9.8x6.2mm (max), Pitch 0.65mm, IPC Medium Density)
pins: 1 P21/ANI1 (io) "Analog input", 2 P20/ANI0 (io) "Analog input", 3 P01/TO00 (io), 4 P00/TI00 (io), 5 P120/INTP0 (io), 6 ~{RESET} (in) "Reset", 7 FLMD0, 8 P122/X2 (io) "Crystal oscillator", 9 P121/X1 (io) "Crystal oscillator", 10 REGC "Regulator capacitance", 11 GND (power) "Ground", 12 VDD (power) "Power supply", 13 P60/SCL0 (io), 14 P61/SDA0 (io), 15 P33/INTP4 (io), 16 P32/INTP3 (io), 17 P31/INTP2 (io), 18 P30/INTP1 (io), 19 P17/TI50 (io), 20 P16/TOH1 (io), 21 P15/TOH0 (io), 22 P14/RxD6 (io), 23 P13/TxD6 (io) "Transmit data", 24 P12/SO10 (io), 25 P11/RxD0 (io), 26 P10/TxD0 (io) "Transmit data", 27 AVREF (power) "Analog reference voltage", 28 AVSS (power) "Analog ground", 29 P23/ANI3 (io) "Analog input", 30 P22/ANI2 (io) "Analog input"
1 alternate drawing of the same symbol

## ZXSC310
designator U?  Manufacturer Part Number 1: ZXSC310E5TA
LED Driver IC SMD SOT23-5; Manufacturer 1: Diodes/Zetex; Current - Output / Channel: 3.5mA; Ratings: 450 mW; SCDType: spec*; Supplier 1: Digi-Key; Supplier Part Number 1: ZXSC310CT-ND; Package / Case: SOT-23-5
footprint SOT23-5
pins: 1 VCC, 2 GND, 3 STDN, 4 ISENSE, 5 VDRIVE